# EAGLE library part USBLC6-2 (library OAlib)
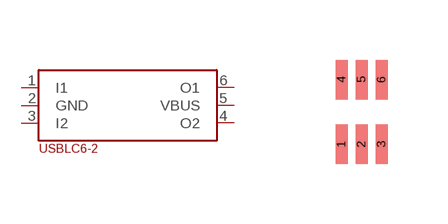
[diagram p0: symbol with the pads of SOT-666; footprint SOT-666]

Designator prefix U

## USBLC6-2  [SOT-666]
1  I1
2  GND
3  I2
4  O2
5  VBUS
6  O1

## Footprint SOT-666 (pad centres in mm)
smd 0.3 x 0.99: 1 -0.5,-0.81; 2 0,-0.81; 3 0.5,-0.81; 4 -0.5,0.81; 5 0,0.81; 6 0.5,0.81